# Altium schematic symbol library Voltage Regulators Linear.SchLib: 28 symbols
Pins are listed as number, name and electrical type; pins without a type are passive.

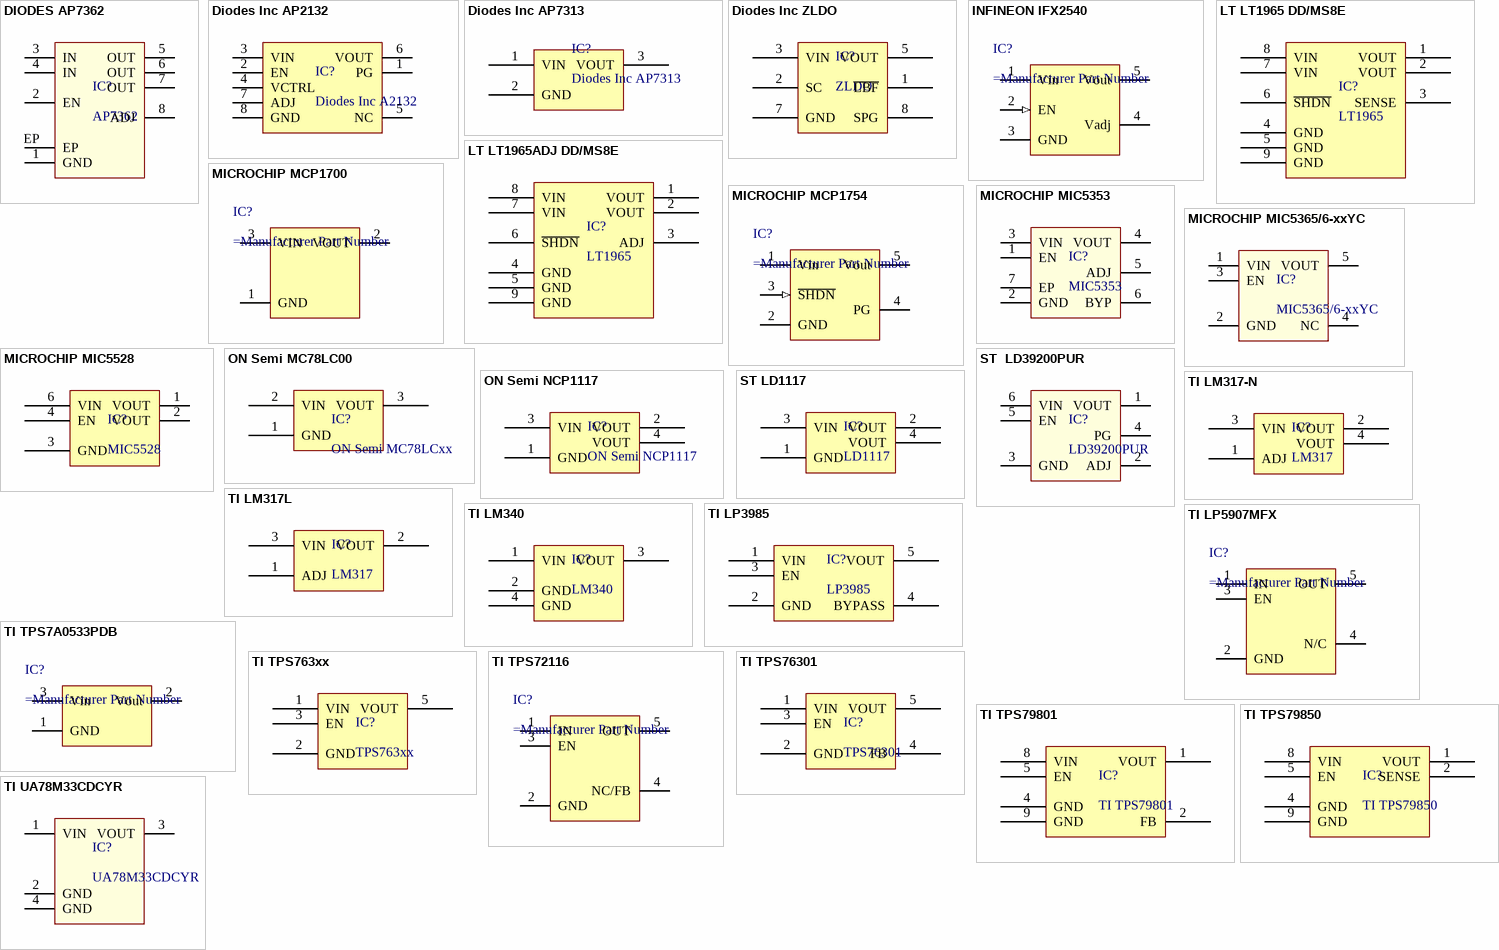
[diagram p0: symbols DIODES AP7362 to TI UA78M33CDCYR]

## DIODES AP7362
designator IC?, comment AP7362
The AP7362 is a 1.5A adjustable output voltage linear regulator with ultra-low dropout.
footprint DIODES SO-8-EP (SOIC, 8-Leads, Body 4.90x3.90mm, Pitch 1.27mm, IPC Medium Density)
pins: 1 GND, 2 EN, 3 IN, 4 IN, 5 OUT, 6 OUT, 7 OUT, 8 ADJ, EP

## Diodes Inc AP2132
designator IC?, comment Diodes Inc A2132
The AP2132B series have features of large current, low dropout / voltage, high output voltage accuracy, low input voltage. The / AP2132B provides a power good (PG) signal to indicate if the voltage / level of VOUT reaches 92% of its rating value. And it operates with VIN / as low as 1.4V and VCTRL voltage 5V with output voltage / programmable as low as 0.8V.
footprint DIODES SO-8-EP (SOIC, 8-Leads, Body 4.90x3.90mm, Pitch 1.27mm, IPC Medium Density)
pins: 1 PG, 2 EN, 3 VIN, 4 VCTRL, 5 NC, 6 VOUT, 7 ADJ, 8 GND

## Diodes Inc AP7313
designator IC?
150mA Low quiescent current fast transient low drop out linear regulator
pins: 1 VIN, 2 GND, 3 VOUT

## Diodes Inc ZLDO
designator IC?, comment ZLDO
Diodes Inc 5.0 VOLT ULTRA LOW DROPOUT  REGULATOR
pins: 1 ~{LBF} "Low Battery Flag", 2 SC "Shutdown Control", 3 VIN, 5 VOUT "1uF or greater", 7 GND, 8 SPG "Shaping - 10pF to Vout"

## INFINEON IFX2540
designator IC?
Integrated Circuit; Manufacturer_Name: Infineon; Manufacturer_Part_Number: IFX25401TEV; Datasheet Link: https://datasheet.datasheetarchive.com/originals/distributors/SFDatasheet-11/sf-000233835.pdf; Mouser Part Number: 726-IFX25401TEV; Mouser Price/Stock: https://www.mouser.co.uk/ProductDetail/Infineon-Technologies/IFX25401TEV?qs=wK%252BoHS4yu57aItG6ZX59yA%3D%3D
footprint INFINEON PG-TO252-5
pins: 1 Vin (power), 2 EN (in), 3 GND (power), 4 Vadj (power), 5 Vout (power)

## LT LT1965 DD/MS8E
designator IC?, comment LT1965
1.1A, Low Noise, Low Dropout Linear Regulator
pins: 1 VOUT, 2 VOUT, 3 SENSE, 4 GND, 5 GND, 6 ~{SHDN}, 7 VIN, 8 VIN, 9 GND

## LT LT1965ADJ DD/MS8E
designator IC?, comment LT1965
1.1A, Low Noise, Low Dropout Linear Regulator
pins: 1 VOUT, 2 VOUT, 3 ADJ, 4 GND, 5 GND, 6 ~{SHDN}, 7 VIN, 8 VIN, 9 GND

## MICROCHIP MCP1700
designator IC?
Low Quiescent Current LDO; Manufacturer_Name: Microchip; Manufacturer_Part_Number: MCP1700T-3002E/TT; Datasheet Link: https://datasheet.datasheetarchive.com/originals/distributors/Datasheets-DGA25/1767215.pdf; Height: 1.12mm; Mouser Part Number: 579-MCP1700T3002E/TT; Mouser Price/Stock: https://www.mouser.co.uk/ProductDetail/Microchip-Technology/MCP1700T-3002E-TT?qs=fM4xO01eazNGf09So1mDmg%3D%3D; Arrow Part Number: MCP1700T-3002E/TT; Arrow Price/Stock: https://www.arrow.com/en/products/mcp1700t-3002ett/microchip-technology?utm_currency=USD&region=nac
footprint MICROCHIP SOT-23-3 NB (SOT23, 3-Leads, Body 2.86x2.37mm, Pitch 0.95mm, IPC Medium Density)
pins: 1 GND, 2 VOUT, 3 VIN

## MICROCHIP MCP1754
designator IC?
The MCP1754/MCP1754S is a family of CMOS low / dropout (LDO) voltage regulators that can deliver up to / 150 mA of current while consuming only 56.0 µA of / quiescent current (typical).
footprint MICROCHIP SOT-23-5 OT (SOT23, 5-Leads, Body 2.90x2.70mm, Pitch 0.95mm, IPC Medium Density)
pins: 1 Vin (power), 2 GND (power), 3 ~{SHDN} (in), 4 PG, 5 Vout (power)

## MICROCHIP MIC5353
designator IC?, comment MIC5353
Integrated Circuit
footprint MICREL MLF-6 1.6x1.6MM (6-UFDFN Exposed Pad, 6-TMLF®)
pins: 1 EN, 2 GND, 3 VIN, 4 VOUT, 5 ADJ, 6 BYP, 7 EP (power)

## MICROCHIP MIC5365/6-xxYC
designator IC?, comment MIC5365/6-xxYC
High perfonmance 150mA LDO
footprint MICROCHIP SC70-5 LT (SC70, 5-Leads, Body 2.03x2.10mm, Pitch 0.65mm, IPC Medium Density)
pins: 1 VIN, 2 GND, 3 EN, 4 NC, 5 VOUT

## MICROCHIP MIC5528
designator IC?, comment MIC5528
High Performance 500 mA LDO in Thin and Extra Thin DFN Packages
footprint LT DFN-6 2x2mm DC6 RF (DFN, 6-Leads, Body 2.00x2.00mm, Pitch 0.50mm, Thermal Pad 0.61x1.42mm, IPC High Density)
pins: 1 VOUT "Desc1", 2 VOUT "Desc1", 3 GND "Desc1", 4 EN "Desc1", 6 VIN "Desc1"

## ON Semi MC78LC00
designator IC?, comment ON Semi MC78LCxx
Micropower Voltage  Regulator
pins: 1 GND, 2 VIN, 3 VOUT

## ON Semi NCP1117
designator IC?
1.0A Low-Dropout Positive Fixed and Adjustable Voltage Regulators
footprint ON SEMI SOT-223 ST(318H) (SOT223, 4-Leads, Body 6.50x7.00mm (avg), Pitch 2.30mm, IPC Medium Density)
pins: 1 GND, 2 VOUT, 3 VIN, 4 VOUT

## ST  LD39200PUR
designator IC?, comment LD39200PUR
Integrated Circuit
footprint ST DFN-6 3x3mm (DFN6 (3 x 3 mm))
pins: 1 VOUT, 2 ADJ, 3 GND, 4 PG (power), 5 EN, 6 VIN

## ST LD1117
designator IC?, comment LD1117
Wide Temperature Three-Pin Adjustable Regulator
pins: 1 GND, 2 VOUT, 3 VIN, 4 VOUT

## TI LM317-N
designator IC?, comment LM317
Wide Temperature Three-Pin Adjustable Regulator
pins: 1 ADJ, 2 VOUT, 3 VIN, 4 VOUT

## TI LM317L
designator IC?, comment LM317
Wide Temperature Three-Pin Adjustable Regulator
pins: 1 ADJ, 2 VOUT, 3 VIN

## TI LM340
designator IC?, comment LM340
Wide Temperature Three-Pin Adjustable Regulator
pins: 1 VIN, 2 GND, 3 VOUT, 4 GND

## TI LP3985
designator IC?, comment LP3985
Micropower 150mA Low-Noise Ultra Low-Dropout CMOS Voltage Regulator
pins: 1 VIN, 2 GND, 3 EN, 4 BYPASS, 5 VOUT

## TI LP5907MFX
designator IC?
Transistor; Manufacturer_Name: Texas Instruments; Manufacturer_Part_Number: LP5907MFX-3.2/NOPB; Datasheet Link: http://www.ti.com/lit/gpn/lp5907; Height: 1.45mm; Mouser Part Number: 595-LP5907MFX-3.2NPB; Mouser Price/Stock: https://www.mouser.co.uk/ProductDetail/Texas-Instruments/LP5907MFX-3.2-NOPB?qs=biyDIajrTn6Bj8DmQZGn0g%3D%3D; Arrow Part Number: LP5907MFX-3.2/NOPB; Arrow Price/Stock: https://www.arrow.com/en/products/lp5907mfx-3.2nopb/texas-instruments?region=nac
footprint TI SOT-23-5 DBV (SOT23, 5-Leads, Body 2.90x2.80mm, Pitch 0.95mm, IPC Medium Density)
pins: 1 IN, 2 GND, 3 EN, 4 N/C, 5 OUT

## TI TPS7A0533PDB
designator IC?
1-µA Ultralow IQ, 200-mA, Low-Dropout Regulator / in a Small-Size Package
footprint TI SOT-23-3 DBZ (SOT23, 3-Leads, Body 2.92x2.37mm, Pitch 0.95mm, IPC Medium Density)
pins: 1 GND, 2 Vout, 3 Vin

## TI TPS763xx
designator IC?, comment TPS763xx
150mA Low-Dropout Regulator
pins: 1 VIN "Desc1", 2 GND "Desc1", 3 EN "Desc1", 5 VOUT "Desc1"

## TI TPS72116
designator IC?
LOW INPUT VOLTAGE, CAP FREE 150-mA LOW-DROPOUT LINEAR REGULATORS; Manufacturer_Name: Texas Instruments; Manufacturer_Part_Number: TPS72116DBVR; Datasheet Link: http://www.ti.com/lit/gpn/TPS721; Height: 1.45mm; Mouser Part Number: 595-TPS72116DBVR; Mouser Price/Stock: https://www.mouser.co.uk/ProductDetail/Texas-Instruments/TPS72116DBVR?qs=Gse6rAGbi7%2FWaruT%252BGCkCg%3D%3D; Arrow Part Number: TPS72116DBVR; Arrow Price/Stock: https://www.arrow.com/en/products/tps72116dbvr/texas-instruments
footprint TI SOT-23-5 DBV (SOT23, 5-Leads, Body 2.90x2.80mm, Pitch 0.95mm, IPC Medium Density)
pins: 1 IN, 2 GND, 3 EN, 4 NC/FB, 5 OUT

## TI TPS76301
designator IC?, comment TPS76301
150mA Low-Dropout Regulator
pins: 1 VIN "Desc1", 2 GND "Desc1", 3 EN "Desc1", 4 FB "Desc1", 5 VOUT "Desc1"

## TI TPS79801
designator IC?
50 mA, 3 V TO 50 V, MICROPOWER, LOW-DROPOUT LINEAR REGULATOR
pins: 1 VOUT, 2 FB, 4 GND, 5 EN, 8 VIN, 9 GND

## TI TPS79850
designator IC?
50 mA, 3 V TO 50 V, MICROPOWER, LOW-DROPOUT LINEAR REGULATOR
pins: 1 VOUT, 2 SENSE, 4 GND, 5 EN, 8 VIN, 9 GND

## TI UA78M33CDCYR
designator IC?, comment UA78M33CDCYR
Undefined or Miscellaneous
footprint TI SOT-223 DCY (SOT223, 4-Leads, Body 6.50x7.00mm (avg), Pitch 2.30mm, IPC Medium Density)
pins: 1 VIN, 2 GND, 3 VOUT, 4 GND